# Altium footprint library Accumulator board 1 mkII 3.0.PcbLib: 32 footprints (part 2 of 2)
Each footprint in its own frame and in the unit in brackets; x right, y up, seen from the top. Pads: shape width x height; smd on the part's side, far side on the other; paste and mask are expansions set on the pad; w line width, h text height; cw(c..) or ccw(c..) is an arc to the next point about the centre after c.
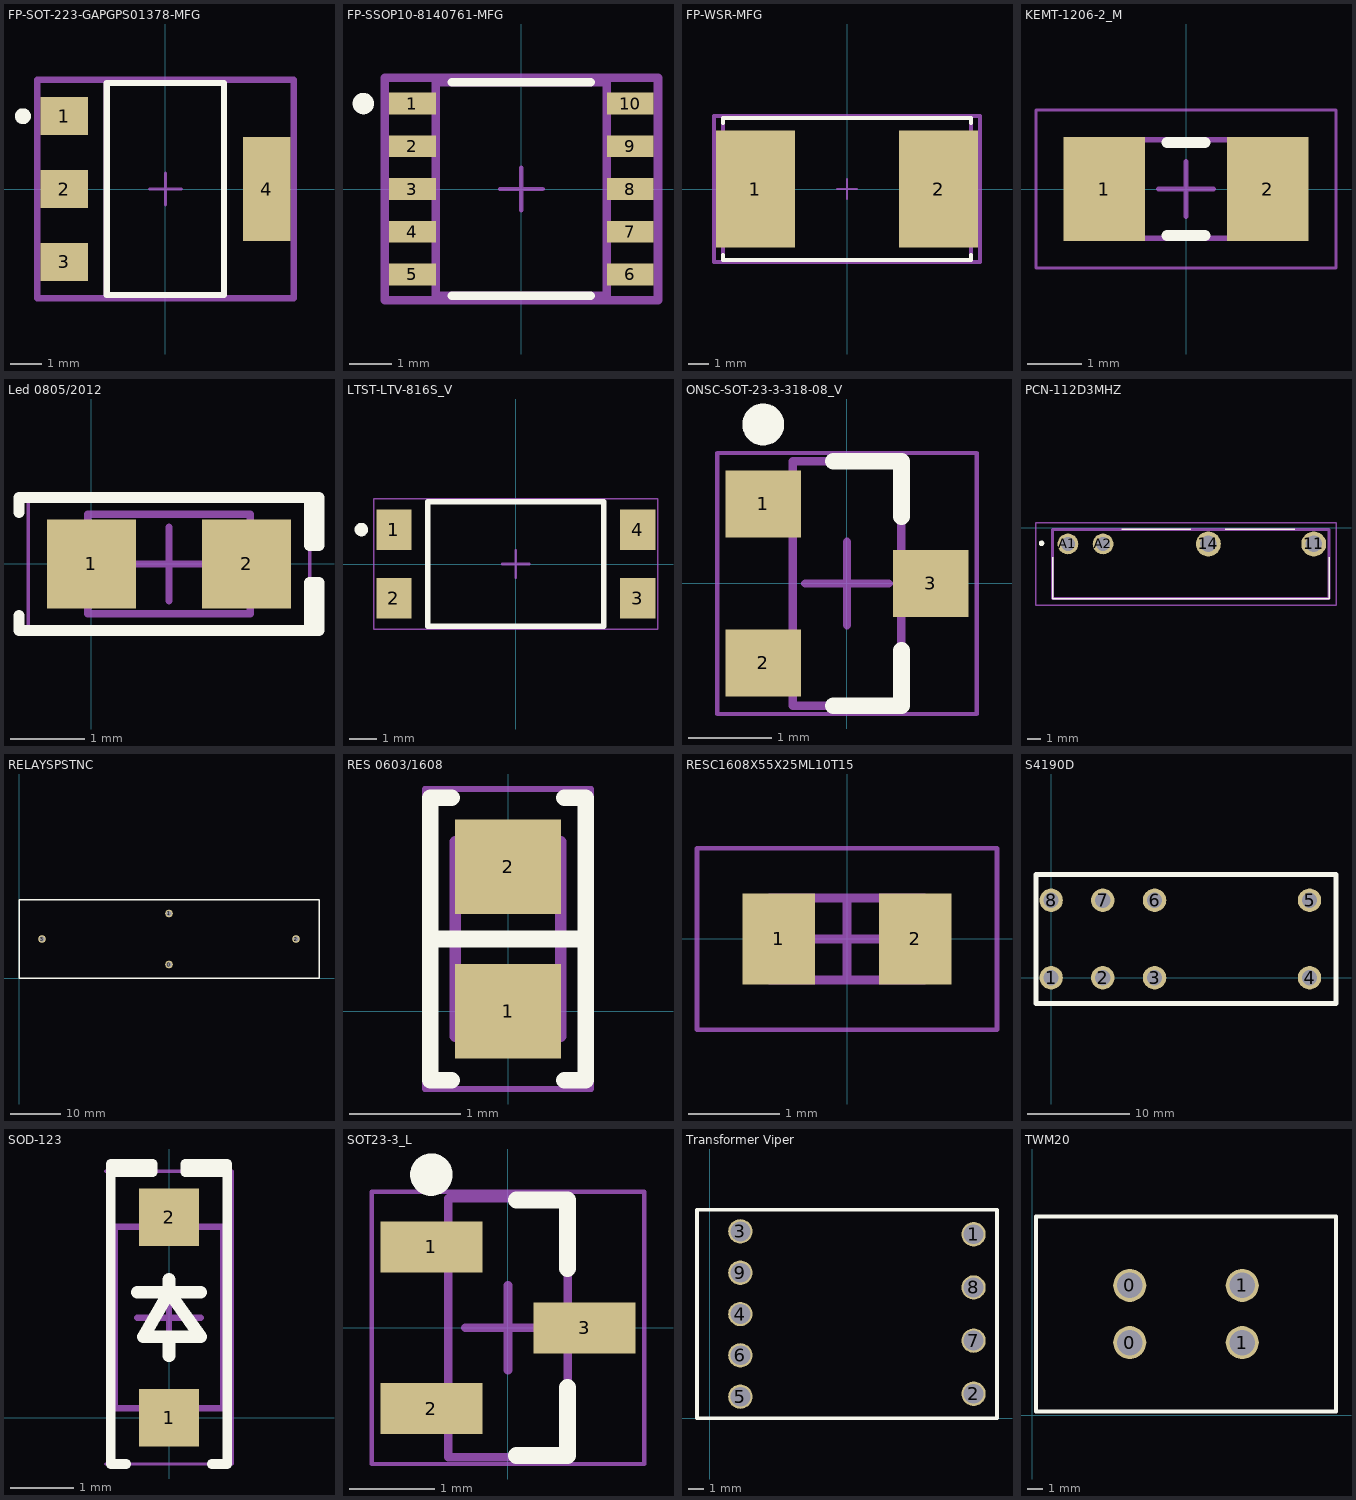
[diagram p1: the footprints below, top view; thin cyan lines are the x and y axes]

## FP-SOT-223-GAPGPS01378-MFG [mm]
height 9.24
pads (4):
  rect 1.5x1.2 smd paste+0 mask+0: 1(-3.2,2.3) 2(-3.2,0) 3(-3.2,-2.3)
  rect 1.5x3.3 smd paste+0 mask+0: 4(3.2,0)
Top Overlay:
  circle w0.25: c-4.5,2.3 r0.125
  lines w0.2: -1.85,-3.35 -1.85,3.35 1.85,3.35 1.85,-3.35 -1.85,-3.35
Top 3D Body:
  lines w0.2: -1.85,-3.35 -1.85,3.35 1.85,3.35 1.85,-3.35 -1.85,-3.35
Top Courtyard:
  lines w0.2: -4.05,-3.45 -4.05,3.45 4.05,3.45 4.05,-3.45 -4.05,-3.45
Top Assembly:
  lines w0.2: -4.05,-3.45 -4.05,3.45 4.05,3.45 4.05,-3.45 -4.05,-3.45
  text ".Designator" at 0,0.188 h1
Top Component Center:
  lines w0.1: -0.5,0 0.5,0 ; 0,-0.5 0,0.5
3D body "IC_STMicroelectronics_L5150BNTR_eec.STEP": height 0.25, standoff 0, extent -4.05,-3.45 4.05,3.45

## FP-SSOP10-8140761-MFG [mm]
pads (10):
  rect 1.1x0.51 smd paste+0 mask+0: 1(-2.55,2) 2(-2.55,1) 3(-2.55,0) 4(-2.55,-1) 5(-2.55,-2) 6(2.55,-2) 7(2.55,-1) 8(2.55,0) 9(2.55,1) 10(2.55,2)
Top Overlay:
  circle w0.25: c-3.7,2 r0.125
  lines w0.2: -1.625,-2.5 1.625,-2.5 ; -1.625,2.5 1.625,2.5
Top 3D Body:
  lines w0.2: -2,-2.5 -2,2.5 2,2.5 2,-2.5 -2,-2.5
Top Courtyard:
  lines w0.2: -3.2,-2.6 -3.2,2.6 3.2,2.6 3.2,-2.6 -3.2,-2.6
Top Assembly:
  lines w0.2: -3.2,-2.6 -3.2,2.6 3.2,2.6 3.2,-2.6 -3.2,-2.6
  text ".Designator" at 0,0 h1
Top Component Center:
  lines w0.1: -0.5,0 0.5,0 ; 0,-0.5 0,0.5
3D body "IC_STMicroelectronics_VIPER013LS_eec.STEP": height 0.25, standoff 0, extent -3.2,-2.6 3.2,2.6

## FP-WSR-MFG [mm]
pads (2):
  rect 3.94x5.84 smd paste+0 mask+0: 1(-4.575,0) 2(4.575,0)
Top Overlay:
  lines w0.2: -6.187,-3.295 -6.187,-3.554 6.187,-3.554 6.187,-3.295 ; -6.187,3.295 -6.187,3.554 6.187,3.554 6.187,3.295
Top 3D Body:
  lines w0.2: -6.187,-3.554 -6.187,3.554 6.187,3.554 6.187,-3.554 -6.187,-3.554
Top Courtyard:
  lines w0.2: -6.645,-3.654 -6.645,3.654 6.645,3.654 6.645,-3.654 -6.645,-3.654
Top Assembly:
  lines w0.2: -6.645,-3.654 -6.645,3.654 6.645,3.654 6.645,-3.654 -6.645,-3.654
  text ".Designator" at 0,0.188 h1
Top Component Center:
  lines w0.1: -0.5,0 0.5,0 ; 0,-0.5 0,0.5
3D body "Res_Vishay_WSR3R1000FEK_eec.STEP": height 0.25, standoff 0, extent -6.645,-3.654 6.645,3.654

## KEMT-1206-2_M [mm] "SMD, 2-Leads, Body 3.4x1.8mm, IPC Low Density"
height 0.88
pads (2):
  rect 1.5x1.9 smd: 1(-1.5,0) 2(1.5,0)
Top Overlay:
  lines w0.2: -0.35,-0.85 0.35,-0.85 ; -0.35,0.85 0.35,0.85
Mechanical 13:
  lines w0.1: -1.7,-0.9 1.7,-0.9 1.7,0.9 -1.7,0.9 -1.7,-0.9
Mechanical 15:
  lines w0.05: -2.75,-1.45 2.75,-1.45 2.75,1.45 -2.75,1.45 -2.75,-1.45
  lines w0.1: -0.5,0 0.5,0 ; 0,-0.5 0,0.5
3D body: height 0.88, standoff 0, extent 1.2,-0.9 1.7,0.9
3D body: height 0.88, standoff 0, extent -1.7,-0.9 -1.2,0.9
3D body: height 0.88, standoff 0, extent -1.2,-0.9 1.2,0.9

## Led 0805/2012 [mm]
pads (2):
  rect 1.2x1.2 smd: 1(0,0) 2(2.1,0)
Top Overlay:
  lines w0.15: -0.982,-0.7 -0.982,-0.9 2.955,-0.9 ; -0.982,0.7 -0.982,0.9 2.955,0.9 ; 2.955,-0.9 3.082,-0.9 3.082,-0.254 2.955,-0.254 2.955,-0.9 ; 2.955,0.9 3.082,0.9 3.082,0.254 2.955,0.254 2.955,0.9
Mechanical 13:
  lines w0.1: -0.05,-0.675 2.15,-0.675 2.15,0.675 -0.05,0.675 -0.05,-0.675
Mechanical 15:
  lines w0.05: -0.855,-0.95 2.955,-0.95 2.955,0.95 -0.855,0.95 -0.855,-0.95
  lines w0.1: 0.55,0 1.55,0 ; 1.05,-0.5 1.05,0.5
3D body "LED 0805 Base GREEN.STEP": height 0.4, standoff 0, extent 0.05,-0.625 2.05,0.625
3D body "LED 0805 Lens GREEN.STEP": height 0.9, standoff 0.3, extent 0.4,-0.625 1.7,0.625

## LTST-LTV-816S_V [mm] "SMD, 4-Leads, Body 6.5x4.6mm, Pitch 2.54mm"
height 4
pads (4):
  rect 1.3x1.5 smd: 1(-4.5,1.27) 2(-4.5,-1.27) 3(4.5,-1.27) 4(4.5,1.27)
Top Overlay:
  circle w0.25: c-5.7,1.27 r0.125
  lines w0.2: -3.25,-2.3 3.25,-2.3 3.25,2.3 -3.25,2.3 -3.25,-2.3
Mechanical 13:
  lines w0.1: -3.25,-2.3 -3.25,2.3 3.25,2.3 3.25,-2.3 -3.25,-2.3
Mechanical 15:
  lines w0.05: -5.25,-2.4 -5.25,2.4 5.25,2.4 5.25,-2.4 -5.25,-2.4
  lines w0.1: -0.5,0 0.5,0 ; 0,-0.5 0,0.5
3D body: height 4, standoff 0, extent -3.249,-2.299 3.249,2.299

## ONSC-SOT-23-3-318-08_V [mm] "SOT23, 3-Leads, Body 2.92x1.3mm, Pitch 0.95mm"
height 1.11
pads (3):
  rect 0.9x0.8 smd: 1(-1,0.95) 2(-1,-0.95) 3(1,0)
Top Overlay:
  circle w0.25: c-1,1.9 r0.125
  lines w0.2: -0.165,-1.46 0.65,-1.46 0.65,-0.8 ; -0.165,1.46 0.65,1.46 0.65,0.8
Mechanical 13:
  lines w0.1: -0.65,-1.46 -0.65,1.46 0.65,1.46 0.65,-1.46 -0.65,-1.46
Mechanical 15:
  lines w0.05: -1.55,-1.56 -1.55,1.56 1.55,1.56 1.55,-1.56 -1.55,-1.56
  lines w0.1: -0.5,0 0.5,0 ; 0,-0.5 0,0.5
3D body: height 1.11, standoff 0.01, extent -0.65,-1.46 0.65,1.46

## PCN-112D3MHZ [mm]
pads (4):
  round 1.8 hole 1.2: 11(31.039,-1.168) 14(23.419,-1.168)
  round 1.5 hole 1: A1(13.259,-1.168) A2(15.799,-1.168)
Top Overlay:
  lines w0.1: 12.149,-2.118 12.149,-5.118 32.149,-5.118 32.149,-2.118 ; 17.149,-0.118 22.149,-0.118 ; 24.649,-0.118 29.649,-0.118
  lines w0.2: 11.349,-1.218 ccw(c11.349,-1.118) 11.349,-1.018 ccw(c11.349,-1.118) 11.349,-1.218
Mechanical 13:
  lines w0.2: 12.149,-5.118 12.149,-0.118 32.149,-0.118 32.149,-5.118 12.149,-5.118
Mechanical 15:
  lines w0.1: 10.949,-5.618 10.949,0.382 32.649,0.382 32.649,-5.618 10.949,-5.618
3D body "PCN-112D3MHZ.stp": height 12.6, standoff -5, extent 12.149,-5.118 32.149,-0.118

## RELAYSPSTNC [mm]
pads (4):
  round 1.524 hole 1: 0(30,2.8) 1(30,13) 2(55.4,7.9) 3(4.6,7.9)
Top Overlay:
  lines w0.254: 0,0 0,15.8 60,15.8 60,0 0,0
3D body: height 18.5, standoff 0, extent 0,0 60,15.8

## RES 0603/1608 [mm]
pads (2):
  rect 0.95x0.85 smd: 1(0,0) 2(0,1.3)
Top Overlay:
  lines w0.15: -0.7,0.65 0.7,0.65 ; -0.508,-0.62 -0.7,-0.62 -0.7,1.92 -0.508,1.92 ; 0.508,-0.62 0.7,-0.62 0.7,1.92 0.508,1.92
Mechanical 13:
  lines w0.1: -0.475,-0.225 -0.475,1.525 0.475,1.525 0.475,-0.225 -0.475,-0.225
Mechanical 15:
  lines w0.05: -0.75,-0.7 -0.75,2 0.75,2 0.75,-0.7 -0.75,-0.7
  lines w0.1: -0.475,0.65 0.475,0.65
3D body "0603 resistor.STEP": height 0.45, standoff 0, extent -0.4,-0.15 0.4,1.45

## RESC1608X55X25ML10T15 [mm] "Chip Resistor, 2-Leads, Body 1.60x0.80mm, IPC Low Density"
height 0.55
pads (2):
  rect 0.8x1 smd: 1(-0.75,0) 2(0.75,0)
Mechanical 13:
  lines w0.1: -0.85,-0.45 -0.85,0.45 0.85,0.45 0.85,-0.45 -0.85,-0.45
Mechanical 15:
  lines w0.05: -1.65,-1 -1.65,1 1.65,1 1.65,-1 -1.65,-1
  lines w0.1: -0.45,0 0.45,0 ; 0,-0.45 0,0.45
3D body: height 0.55, standoff 0, extent -0.6,-0.45 0.6,0.45
3D body: height 0.55, standoff 0, extent -0.85,-0.45 -0.6,0.45
3D body: height 0.55, standoff 0, extent 0.6,-0.45 0.85,0.45

## S4190D [mm]
pads (8):
  round 2.3 hole 1.5: 1(0,0) 2(5.08,0) 3(10.16,0) 4(25.38,0) 5(25.38,7.6) 6(10.16,7.6) 7(5.08,7.6) 8(0,7.6)
Top Overlay:
  lines w0.5: -1.484,-2.55 27.98,-2.55 27.98,10.15 -1.484,10.15 -1.484,-2.55
3D body: height 20, standoff 0, extent -1.484,-2.55 27.853,10.15

## SOD-123 [mm]
pads (2):
  rect 0.95x0.9 smd: 1(0,0) 2(0,3.15)
Top Overlay:
  lines w0.15: -0.675,-0.725 -0.916,-0.725 -0.916,3.861 ; 0.675,-0.725 0.916,-0.725 0.916,3.861 ; -0.916,3.861 -0.254,3.861 -0.254,3.988 -0.916,3.988 -0.916,3.861 ; 0.916,3.861 0.916,3.988 0.254,3.988 0.254,3.861 0.916,3.861
  lines w0.2: -0.5,1.975 0.5,1.975 ; 0,0.975 0,1.275 ; 0,2.175 0,1.975 ; 0,1.975 -0.4,1.275 0.5,1.275 0,1.975
Mechanical 13:
  lines w0.1: -0.85,0.15 0.85,0.15 0.85,3 -0.85,3 -0.85,0.15
Mechanical 15:
  lines w0.05: -1,-0.725 1,-0.725 1,3.875 -1,3.875 ; -0.9,-0.725 -0.9,3.875
  lines w0.1: -0.5,1.575 0.5,1.575 ; 0,1.075 0,2.075
3D body "SOD-123.STEP": height 1.35, standoff 0, extent -0.775,-0.289 0.775,3.439

## SOT23-3_L [mm] "SOT23, 3-Leads, Body 2.9x1.3mm, Pitch 0.95mm, Lead Span 2.4mm, IPC High Density"
height 1.12
pads (3):
  rect 1.2x0.6 smd: 1(-0.9,0.95) 2(-0.9,-0.95) 3(0.9,0)
Top Overlay:
  circle w0.25: c-0.9,1.8 r0.125
  lines w0.2: 0.1,-1.5 0.7,-1.5 0.7,-0.7 ; 0.1,1.5 0.7,1.5 0.7,0.7
Mechanical 13:
  lines w0.1: -0.7,-1.52 -0.7,1.52 0.7,1.52 0.7,-1.52 -0.7,-1.52
Mechanical 15:
  lines w0.05: -1.6,-1.6 -1.6,1.6 1.6,1.6 1.6,-1.6 -1.6,-1.6
  lines w0.1: -0.5,0 0.5,0 ; 0,-0.5 0,0.5
3D body: height 1.12, standoff 0.01, extent -0.7,-1.52 0.7,1.52

## Transformer Viper [mm]
height 9.24
pads (9):
  round 1.6 hole 1.3: 1(17.382,12.108) 2(17.382,1.608) 3(2.032,12.298) 4(2.032,6.858) 5(2.032,1.418) 6(2.032,4.138) 7(17.382,5.108) 8(17.382,8.608) 9(2.032,9.578)
Top Overlay:
  lines w0.254: -0.825,0 18.925,0 18.925,13.72 -0.825,13.72 -0.825,0
3D body "070-5662 (rev1).STEP": height 9.4, standoff -2.6, extent -0.7,0.165 18.8,13.585

## TWM20 [mm]
pads (4):
  round 2.2 hole 1.7: 0(6.504,4.849) 0(6.504,8.659) 1(14.004,4.849) 1(14.004,8.659)
Top Overlay:
  lines w0.254: 0.254,0.254 20.254,0.254 20.254,13.254 0.254,13.254 0.254,0.254
3D body: height 45, standoff 0, extent 0.27,0.26 20.25,13.25